# Altium footprint library OptoDevice.PcbLib: 103 footprints (part 2 of 7)
Each footprint in its own frame and in the unit in brackets; x right, y up, seen from the top. Pads: shape width x height; smd on the part's side, far side on the other; paste and mask are expansions set on the pad; w line width, h text height; cw(c..) or ccw(c..) is an arc to the next point about the centre after c.
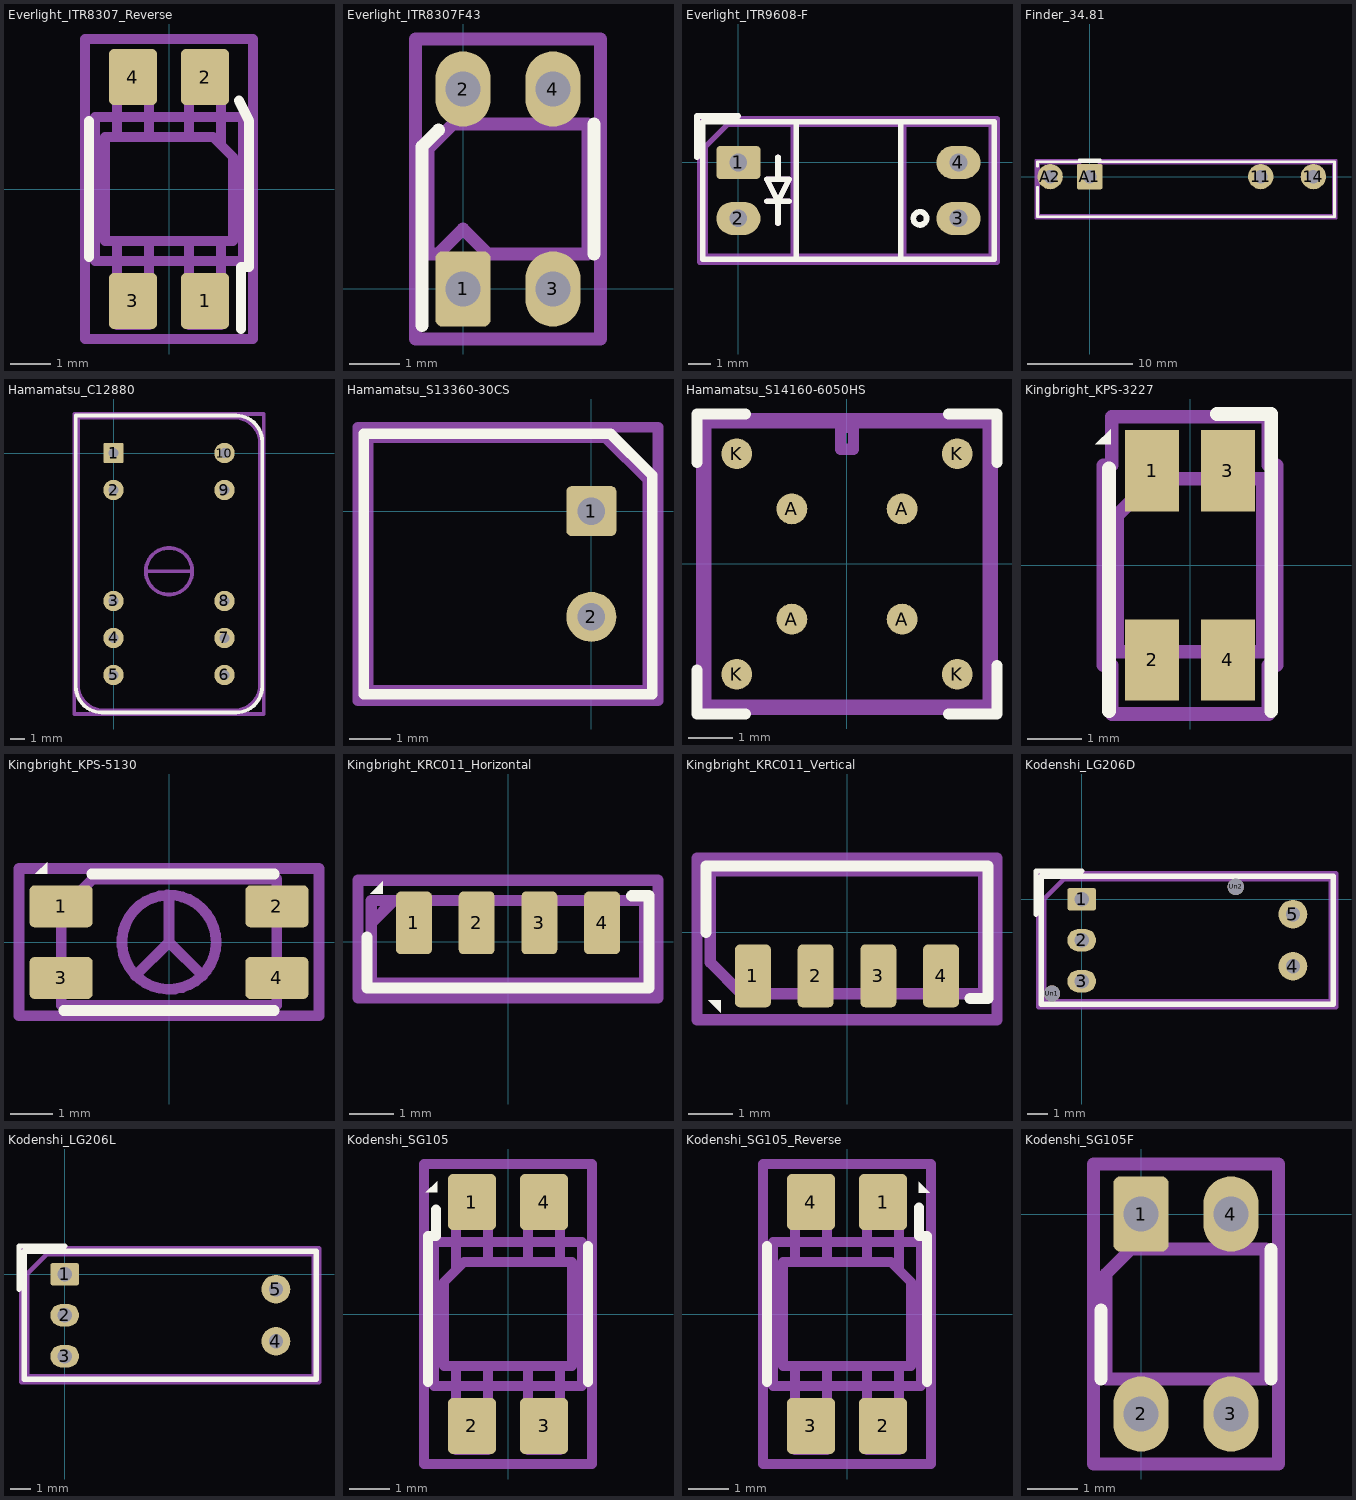
[diagram p1: the footprints below, top view; thin cyan lines are the x and y axes]

## Everlight_ITR8307_Reverse [mm]
pads (4):
  rrect20% 1.2x1.4 smd: 1(0.9,-2.8) 2(0.9,2.8) 3(-0.9,-2.8) 4(-0.9,2.8)
F.SilkS:
  lines w0.254: -2,-1.7 -2,1.7 ; 1.75,2.21 2,1.7 2,-1.95 1.8,-1.95 1.8,-3.5
Top Assembly:
  lines w0.254: -1.3,-1.3 -1.3,-3.4 -0.5,-3.4 -0.5,-1.3 ; -1.3,1.3 -1.3,3.3 -0.5,3.3 -0.5,1.3 ; 0.5,-1.3 0.5,-3.4 1.3,-3.4 1.3,-1.3 ; 0.5,1.3 0.5,3.3 1.3,3.3 1.3,1.1 ; -1.6,-1.3 1.6,-1.3 1.6,0.8 1.1,1.3 -1.6,1.3 -1.6,-1.3
  text "'.Designator'" at -3.073,-0.868 h0.75
Top Courtyard:
  lines w0.254: -2.1,-3.75 2.1,-3.75 2.1,3.75 -2.1,3.75 -2.1,-3.75
Top Designator:
  text ".Designator" at -7.768,-0.508 h1.52
Board Shape:
  lines w0.254: -1.85,-1.8 1.85,-1.8 1.85,1.8 -1.85,1.8 -1.85,-1.8
3D body "Everlight_ITR8307_Reverse.step": height 0.4, standoff -1, extent -1.6,-3.3 1.6,3.3

## Everlight_ITR8307F43 [mm]
pads (4):
  rrect23% 1.1x1.5 hole 0.7: 1(0,0)
  rrect100% 1.1x1.5 hole 0.7: 2(0,4) 3(1.8,0) 4(1.8,4)
F.SilkS:
  lines w0.254: -0.82,-0.73 -0.82,2.85 -0.49,3.18 ; 2.62,0.7 2.62,3.3
Top Assembly:
  lines w0.254: -0.7,0.7 -0.5,0.7 0,1.2 0.5,0.7 2.5,0.7 2.5,3.3 -0.2,3.3 -0.7,2.8 -0.7,0.7
  text "'.Designator'" at -2.133,1.172 h0.75
Top Courtyard:
  lines w0.254: -0.95,-1 2.75,-1 2.75,5 -0.95,5 -0.95,-1
Top Designator:
  text ".Designator" at -6.828,1.492 h1.52
3D body "Everlight_ITR8307F43.step": height 2, standoff -3, extent -0.7,0 2.5,4

## Everlight_ITR9608-F [mm]
pads (4):
  rrect23% 2x1.5 hole 0.8: 1(0,0)
  rrect100% 2x1.5 hole 0.8: 2(0,-2.54) 3(10,-2.54) 4(10,0)
F.SilkS:
  circle w0.254: c8.25,-2.54 r0.3
  lines w0.254: -1.88,0.23 -1.88,2.11 0,2.11 ; 1.3,-1.77 2.3,-1.77 ; 1.8,-2.77 1.8,-1.77 ; 1.8,-0.77 1.8,0.23 ; 2.62,-4.37 2.62,1.85 ; 7.38,-4.37 7.38,1.85 ; 1.8,-1.77 2.3,-0.77 1.3,-0.77 1.8,-1.77 ; -1.62,-4.39 11.62,-4.39 11.62,1.85 -1.62,1.85 -1.62,-4.39
Top Assembly:
  lines w0.254: 1.3,-1.77 2.3,-1.77 ; 1.8,-2.77 1.8,-1.77 ; 1.8,-0.77 1.8,0.23 ; 2.5,-4.27 2.5,1.73 ; 7.5,-4.27 7.5,1.73 ; 1.8,-1.77 2.3,-0.77 1.3,-0.77 1.8,-1.77 ; -1.5,-4.27 11.5,-4.27 11.5,1.73 -0.5,1.73 -1.5,0.73 -1.5,-4.27
  text "'.Designator'" at 0.953,-2.11 h1
Top Courtyard:
  lines w0.254: -1.75,-4.52 11.75,-4.52 11.75,1.98 -1.75,1.98 -1.75,-4.52
Top Designator:
  text ".Designator" at -2.683,-1.713 h1.52
3D body "Everlight_ITR9608-F.step": height 10, standoff -5.6, extent -1.55,-4.3 11.45,1.7

## Finder_34.81 [mm]
pads (4):
  round 2.4 hole 1.3: 11(16.25,0) 14(21.25,0) A2(-3.75,0)
  rrect10% 2.4x2.4 hole 1.3: A1(0,0)
F.SilkS:
  lines w0.254: -4.95,-1 -4.95,-3.8 23.25,-3.8 23.25,1.4 -4.95,1.4 -4.95,1 ; -1,1.6 1,1.6
Top Assembly:
  lines w0.254: -4.85,-3.7 23.15,-3.7 23.15,1.3 1,1.3 0,0.3 -1,1.3 -4.85,1.3 -4.85,-3.7
  text "'.Designator'" at 6.203,-3.24 h1
Top Courtyard:
  lines w0.254: -5.1,-3.95 23.4,-3.95 23.4,1.55 -5.1,1.55 -5.1,-3.95
Top Designator:
  text ".Designator" at 1.532,-1.683 h1.52
3D body "Finder_34.81.step": height 15, standoff -3.5, extent -4.85,-3.7 23.15,1.3

## Hamamatsu_C12880 [mm]
pads (10):
  rrect18% 1.4x1.4 hole 0.7: 1(0,0)
  round 1.4 hole 0.7: 2(0,-2.54) 3(0,-10.16) 4(0,-12.7) 5(0,-15.24) 6(7.62,-15.24) 7(7.62,-12.7) 8(7.62,-10.16) 9(7.62,-2.54) 10(7.62,0)
F.SilkS:
  lines w0.254: -2.59,-16.02 ccw(c-0.79,-16.02) -0.79,-17.82 8.41,-17.82 ccw(c8.41,-16.02) 10.21,-16.02 10.21,0.78 ccw(c8.41,0.78) 8.41,2.58 -2.59,2.58 -2.59,-16.02
Top Assembly:
  circle w0.254: c3.81,-8.12 r1.6
  lines w0.254: -2.44,-15.97 -2.44,2.43 8.31,2.43 cw(c8.31,0.68) 10.06,0.68 ; -2.44,-15.92 ccw(c-0.69,-15.92) -0.69,-17.67 ; -0.74,-17.67 8.31,-17.67 ccw(c8.31,-15.92) 10.06,-15.92 ; 2.21,-8.12 5.41,-8.12 ; 10.06,-15.97 10.06,0.73
  text "'.Designator'" at -0.187,-6.06 h1
Top Courtyard:
  lines w0.254: -2.69,-17.92 -2.69,2.68 10.31,2.68 10.31,-17.92 -2.69,-17.92
Top Designator:
  text ".Designator" at -3.808,-8.128 h1.52

## Hamamatsu_S13360-30CS [mm]
pads (2):
  rrect21% 1.2x1.2 hole 0.66: 1(0,0)
  round 1.2 hole 0.66: 2(0,-2.54)
F.SilkS:
  lines w0.254: -5.46,-4.4 1.46,-4.4 1.46,0.86 0.46,1.86 -5.46,1.86 -5.46,-4.4
Top Assembly:
  lines w0.254: -5.35,-4.295 1.35,-4.295 1.35,0.755 0.35,1.755 -5.35,1.755 -5.35,-4.295
  text "'.Designator'" at -6.587,-2.11 h1
Top Courtyard:
  lines w0.254: -5.6,-4.55 1.6,-4.55 1.6,2.01 -5.6,2.01 -5.6,-4.55
Top Designator:
  text ".Designator" at -10.122,-1.778 h1.52

## Hamamatsu_S14160-6050HS [mm]
pads (8):
  round 0.7 smd: A(-1.25,-1.25) A(-1.25,1.25) A(1.25,-1.25) A(1.25,1.25) K(-2.5,-2.5) K(-2.5,2.5) K(2.5,-2.5) K(2.5,2.5)
F.SilkS:
  lines w0.254: -3.4,-2.4 -3.4,-3.4 -2.3,-3.4 ; -3.4,2.3 -3.4,3.4 -2.3,3.4 ; 2.3,-3.4 3.4,-3.4 3.4,-2.3 ; 2.3,3.4 3.4,3.4 3.4,2.3
Top Assembly:
  lines w0.254: -3.2,-3.2 -3.2,3.2 3.2,3.2 3.2,-3.2 -3.2,-3.2 ; -0.15,2.6 -0.15,3.1 0.15,3.1 0.15,2.6 -0.15,2.6
  text "'.Designator'" at -4.047,-7.84 h1
Top Courtyard:
  lines w0.254: -3.3,-3.3 -3.3,3.3 3.3,3.3 3.3,-3.3 -3.3,-3.3
Top Designator:
  text ".Designator" at -7.768,-2.906 h1.52

## Kingbright_KPS-3227 [mm]
pads (4):
  rect 1x1.5 smd: 1(-0.7,1.75) 2(-0.7,-1.75) 3(0.7,1.75) 4(0.7,-1.75)
F.SilkS:
  region: -1.47,2.24 -1.75,2.24 -1.47,2.52
  lines w0.254: -1.5,-2.7 -1.5,1.79 ; 0.5,2.8 1.5,2.8 1.5,-2.7
Top Assembly:
  lines w0.254: -1.35,-1.6 -1.35,0.925 -0.675,1.6 1.35,1.6 1.35,-1.6 -1.35,-1.6
  text "'.Designator'" at -4.047,-0.84 h1
Top Courtyard:
  lines w0.254: -1.6,-1.85 -1.6,1.85 -1.45,1.85 -1.45,2.75 1.45,2.75 1.45,1.85 1.6,1.85 1.6,-1.85 1.45,-1.85 1.45,-2.75 -1.45,-2.75 -1.45,-1.85 -1.6,-1.85
Top Designator:
  text ".Designator" at -7.768,-0.483 h1.52

## Kingbright_KPS-5130 [mm]
pads (4):
  rrect25% 1.5x1 smd: 1(-2.56,0.85) 2(2.56,0.85) 3(-2.56,-0.85) 4(2.56,-0.85)
F.SilkS:
  region: -2.89,1.62 -3.17,1.62 -2.89,1.9
  lines w0.254: -2.5,-1.62 2.5,-1.62 ; -1.83,1.62 2.5,1.62
Top Assembly:
  circle w0.254: c0,0 r1.118
  lines w0.254: -0.8,-0.8 0,0 ; 0,1.1 0,0 ; 0.8,-0.8 0,0 ; -2.56,-1.5 2.56,-1.5 2.56,1.5 -1.81,1.5 -2.56,0.75 -2.56,-1.5
  text "'.Designator'" at -5.297,1.61 h1
  text "R" at -0.77,0.08 h0.3
  text "B" at -0.17,-0.92 h0.3
  text "G" at 0.323,0.08 h0.3
Top Courtyard:
  lines w0.254: -3.56,-1.75 3.56,-1.75 3.56,1.75 -3.56,1.75 -3.56,-1.75
Top Designator:
  text ".Designator" at -8.497,-0.043 h1.52
3D body "Kingbright_KPS-5130.step": height 1.2, standoff 0, extent -2.56,-1.5 2.56,1.5

## Kingbright_KRC011_Horizontal [mm]
pads (4):
  rrect25% 0.8x1.4 smd: 1(-2.1,0.425) 2(-0.7,0.425) 3(0.7,0.425) 4(2.1,0.425)
F.SilkS:
  region: -2.8,1.08 -3.08,1.08 -2.8,1.36
  lines w0.254: -3.15,0.1 -3.15,-1.03 3.15,-1.03 3.15,1.03 2.76,1.03
Top Assembly:
  lines w0.254: -3.05,0.425 -2.55,0.925 ; -3.05,-0.925 -3.05,0.925 3.05,0.925 3.05,-0.925 -3.05,-0.925
  text "'.Designator'" at -4.047,-0.84 h1
Top Courtyard:
  lines w0.254: -3.35,-1.25 -3.35,1.38 3.35,1.38 3.35,-1.25 -3.35,-1.25
Top Designator:
  text ".Designator" at -7.768,-0.443 h1.52

## Kingbright_KRC011_Vertical [mm]
pads (4):
  rrect25% 0.8x1.4 smd: 1(-2.1,-0.975) 2(-0.7,-0.975) 3(0.7,-0.975) 4(2.1,-0.975)
F.SilkS:
  region: -2.82,-1.8 -3.1,-1.52 -2.82,-1.52
  lines w0.254: -3.15,0 -3.15,1.48 3.15,1.48 3.15,-1.48 2.75,-1.48
Top Assembly:
  lines w0.254: -3.05,-0.675 -3.05,1.375 3.05,1.375 3.05,-1.375 -2.35,-1.375 -3.05,-0.675
  text "'.Designator'" at -4.047,-0.84 h1
Top Courtyard:
  lines w0.254: -3.35,-1.95 -3.35,1.65 3.35,1.65 3.35,-1.95 -3.35,-1.95
Top Designator:
  text ".Designator" at -7.768,-0.658 h1.52

## Kodenshi_LG206D [mm]
pads (7):
  rrect23% 1.4x1.1 hole 0.7: 1(0,0)
  rrect100% 1.4x1.1 hole 0.7: 2(0,-2) 3(0,-4)
  round 1.4 hole 0.7: 4(10.3,-3.27) 5(10.3,-0.73)
  round 0.8 hole 0.8: Un1(-1.45,-4.6) Un2(7.51,0.6)
F.SilkS:
  lines w0.254: -2.23,-0.73 -2.23,1.37 0,1.37 ; -1.97,-5.12 12.27,-5.12 12.27,1.12 -1.97,1.12 -1.97,-5.12
Top Assembly:
  lines w0.254: -1.85,-5 12.15,-5 12.15,1 -0.85,1 -1.85,0 -1.85,-5
  text "'.Designator'" at 1.653,-2.94 h1
Top Courtyard:
  lines w0.254: -2.1,-5.25 12.4,-5.25 12.4,1.25 -2.1,1.25 -2.1,-5.25
Top Designator:
  text ".Designator" at -2.533,-2.448 h1.52
3D body "Kodenshi_LG206D.step": height 10, standoff -10, extent -1.85,-5 12.15,1

## Kodenshi_LG206L [mm]
pads (5):
  rrect23% 1.4x1.1 hole 0.7: 1(0,0)
  rrect100% 1.4x1.1 hole 0.7: 2(0,-2) 3(0,-4)
  round 1.4 hole 0.7: 4(10.3,-3.27) 5(10.3,-0.73)
F.SilkS:
  lines w0.254: -2.23,-0.73 -2.23,1.37 0,1.37 ; -1.97,-5.12 12.27,-5.12 12.27,1.12 -1.97,1.12 -1.97,-5.12
Top Assembly:
  lines w0.254: -1.85,-5 12.15,-5 12.15,1 -0.85,1 -1.85,0 -1.85,-5
  text "'.Designator'" at 1.653,-2.94 h1
Top Courtyard:
  lines w0.254: -2.1,-5.25 12.4,-5.25 12.4,1.25 -2.1,1.25 -2.1,-5.25
Top Designator:
  text ".Designator" at -2.533,-2.448 h1.52
3D body "Kodenshi_LG206L.step": height 10, standoff -10, extent -1.85,-4.99 12.15,1.21

## Kodenshi_SG105 [mm]
pads (4):
  rrect20% 1.2x1.4 smd: 1(-0.9,2.8) 2(-0.9,-2.8) 3(0.9,-2.8) 4(0.9,2.8)
F.SilkS:
  region: -1.77,3.04 -2.05,3.04 -1.77,3.32
  lines w0.254: -2,-1.7 -2,1.95 -1.8,1.95 -1.8,2.61 ; 2,-1.7 2,1.7
Top Assembly:
  lines w0.254: -1.3,-1.3 -1.3,-3.4 -0.5,-3.4 -0.5,-1.3 ; -1.3,1.1 -1.3,3.3 -0.5,3.3 -0.5,1.3 ; 0.5,-1.3 0.5,-3.4 1.3,-3.4 1.3,-1.3 ; 0.5,1.3 0.5,3.3 1.3,3.3 1.3,1.3 ; -1.6,-1.3 1.6,-1.3 1.6,1.3 -1.1,1.3 -1.6,0.8 -1.6,-1.3
  text "'.Designator'" at -3.073,-0.868 h0.75
Top Courtyard:
  lines w0.254: -2.1,-3.75 2.1,-3.75 2.1,3.75 -2.1,3.75 -2.1,-3.75
Top Designator:
  text ".Designator" at -7.768,-0.508 h1.52
Board Shape:
  lines w0.254: -1.85,-1.8 1.85,-1.8 1.85,1.8 -1.85,1.8 -1.85,-1.8
3D body "Kodenshi_SG105.step": height 1, standoff -0.4, extent -1.6,-3.35 1.6,3.35

## Kodenshi_SG105_Reverse [mm]
pads (4):
  rrect20% 1.2x1.4 smd: 1(0.9,2.8) 2(0.9,-2.8) 3(-0.9,-2.8) 4(-0.9,2.8)
F.SilkS:
  region: 2.07,3.03 1.79,3.03 1.79,3.31
  lines w0.254: -2,-1.7 -2,1.7 ; 1.8,2.66 1.8,1.95 2,1.95 2,-1.7
Top Assembly:
  lines w0.254: -1.3,-1.3 -1.3,-3.4 -0.5,-3.4 -0.5,-1.3 ; -1.3,1.3 -1.3,3.3 -0.5,3.3 -0.5,1.3 ; 0.5,-1.3 0.5,-3.4 1.3,-3.4 1.3,-1.3 ; 0.5,1.3 0.5,3.3 1.3,3.3 1.3,1.1 ; -1.6,-1.3 1.6,-1.3 1.6,0.8 1.1,1.3 -1.6,1.3 -1.6,-1.3
  text "'.Designator'" at -3.073,-0.868 h0.75
Top Courtyard:
  lines w0.254: -2.1,-3.75 2.1,-3.75 2.1,3.75 -2.1,3.75 -2.1,-3.75
Top Designator:
  text ".Designator" at -7.768,-0.508 h1.52
Board Shape:
  lines w0.254: -1.85,-1.8 1.85,-1.8 1.85,1.8 -1.85,1.8 -1.85,-1.8
3D body "Kodenshi_SG105_Reverse.step": height 0.4, standoff -1, extent -1.6,-3.35 1.6,3.35

## Kodenshi_SG105F [mm]
pads (4):
  rrect23% 1.1x1.5 hole 0.7: 1(0,0)
  rrect100% 1.1x1.5 hole 0.7: 2(0,-4) 3(1.8,-4) 4(1.8,0)
F.SilkS:
  lines w0.254: -0.8,-3.3 -0.8,-1.92 ; 2.6,-3.3 2.6,-0.71
Top Assembly:
  lines w0.254: -0.7,-3.3 2.5,-3.3 2.5,-0.7 -0.2,-0.7 -0.7,-1.2 -0.7,-3.3
  text "'.Designator'" at -2.133,-2.828 h0.75
Top Courtyard:
  lines w0.254: -0.95,-5 2.75,-5 2.75,1 -0.95,1 -0.95,-5
Top Designator:
  text ".Designator" at -6.828,-2.508 h1.52
3D body "Kodenshi_SG105F.step": height 2, standoff -3, extent -0.7,-4 2.5,0